# Altium footprint library POE_PD_CTRL.PcbLib: 2 footprints
Each footprint in its own frame and in the unit in brackets; x right, y up, seen from the top. Pads: shape width x height; smd on the part's side, far side on the other; paste and mask are expansions set on the pad; w line width, h text height; cw(c..) or ccw(c..) is an arc to the next point about the centre after c.
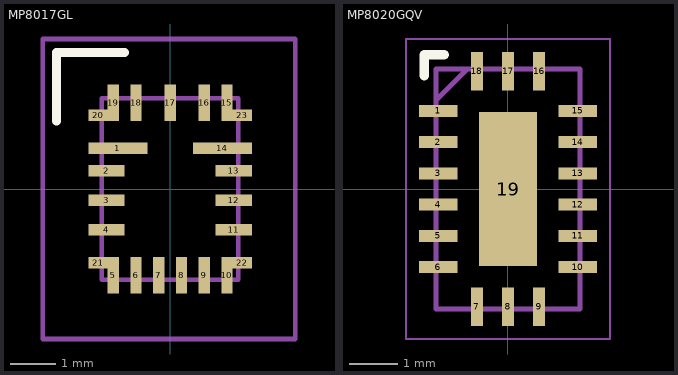
[diagram p0: the footprints below, top view; thin cyan lines are the x and y axes]

## MP8017GL [mm] "IEEE 802.3af-Compliant PoE PD Solution with Primary- or Secondary-Side Regulation Active-Clamp Flyback Converter"
pads (23):
  rect 1.3x0.25 smd mask+0.05: 1(-1.15,0.9) 14(1.15,0.9)
  rect 0.8x0.25 smd mask+0.05: 2(-1.4,0.4) 3(-1.4,-0.25) 4(-1.4,-0.9) 11(1.4,-0.9) 12(1.4,-0.25) 13(1.4,0.4)
  rect 0.25x0.8 smd mask+0.05: 5(-1.25,-1.9) 6(-0.75,-1.9) 7(-0.25,-1.9) 8(0.25,-1.9) 9(0.75,-1.9) 10(1.25,-1.9) 15(1.25,1.9) 16(0.75,1.9) 17(0,1.9) 18(-0.75,1.9) 19(-1.25,1.9)
  rect 0.425x0.25 smd mask+0.05: 20(-1.587,1.625) 21(-1.587,-1.625) 22(1.587,-1.625) 23(1.587,1.625)
Top Overlay:
  lines w0.2: -2.5,1.5 -2.5,3 -1,3
Mechanical 13:
  lines w0.1: -1.5,-2 1.5,-2 1.5,2 -1.5,2 -1.5,-2
Mechanical 15:
  lines w0.1: -2.8,-3.3 2.75,-3.3 2.75,3.3 -2.8,3.3 -2.8,-3.3
3D body "MP8017GL-P.stp": height 1.1, standoff 0, extent -1.5,-2 1.5,2

## MP8020GQV [mm] "Power Over Ethernet Controller 1 Channel 802.3at (PoE+), 802.3af (PoE), 802.3bt 18-QFN (3x5)"
pads (19):
  rect 0.8x0.25 smd: 1(-1.45,1.625) 2(-1.45,0.975) 3(-1.45,0.325) 4(-1.45,-0.325) 5(-1.45,-0.975) 6(-1.45,-1.625) 10(1.45,-1.625) 11(1.45,-0.975) 12(1.45,-0.325) 13(1.45,0.325) 14(1.45,0.975) 15(1.45,1.625)
  rect 0.25x0.8 smd: 7(-0.65,-2.45) 8(0,-2.45) 9(0.65,-2.45) 16(0.65,2.45) 17(0,2.45) 18(-0.65,2.45)
  rect 1.2x3.2 smd: 19(0,0)
Top Overlay:
  lines w0.2: -1.746,2.365 -1.746,2.794 -1.33,2.794
Mechanical 13:
  lines w0.1: -1.5,1.85 -0.85,2.5 ; -1.5,-2.5 1.5,-2.5 1.5,2.5 -1.5,2.5 -1.5,-2.5
Mechanical 15:
  lines w0.05: -2.125,-3.125 2.125,-3.125 2.125,3.125 -2.125,3.125 -2.125,-3.125
3D body "MP8020GQV-P.stp": height 1, standoff 0, extent -1.55,-2.55 1.55,2.55